# EAGLE library part M25P16 (library satcam)
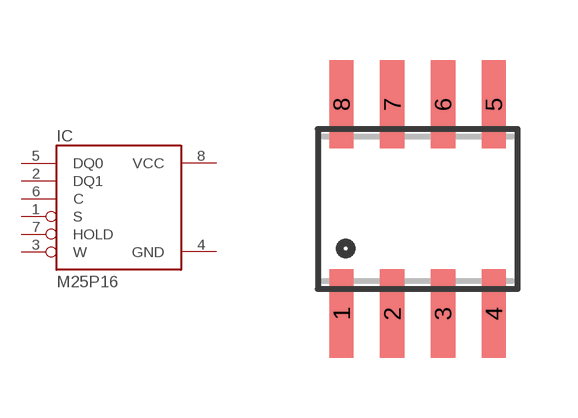
[diagram p3: symbol with the pads of SO08; footprint SO08]

Designator prefix IC

## M25P16  [SO08]
1  S  in
2  DQ1  out
3  W  in
4  GND  pwr
5  DQ0  in
6  C  in
7  HOLD  in
8  VCC  pwr

## Footprint SO08 (pad centres in mm)
Small Outline Package
smd 0.61 x 2.21: 1 -1.905,-2.616; 2 -0.635,-2.616; 3 0.635,-2.616; 4 1.905,-2.616; 5 1.905,2.616; 6 0.635,2.616; 7 -0.635,2.616; 8 -1.905,2.616